# Altium schematic symbol library CAN Transceiver.SchLib: 6 symbols
Pins are listed as number, name and electrical type; pins without a type are passive.

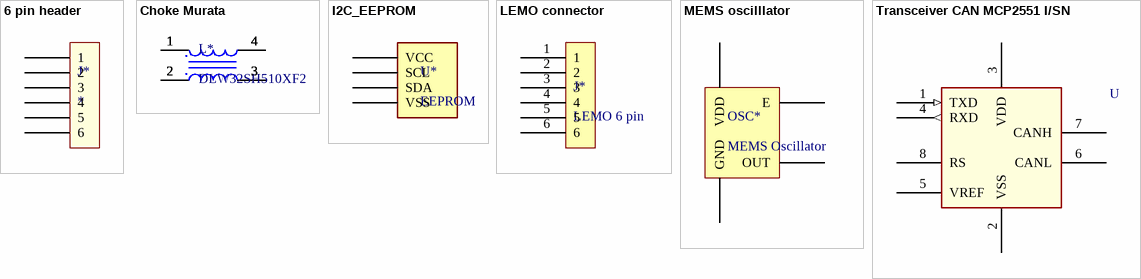
[diagram p0: symbols 6 pin header to Transceiver CAN MCP2551 I/SN]

## 6 pin header
designator J*
pins: 1, 2, 3, 4, 5, 6

## Choke Murata
designator L*, comment DLW32SH510XF2
pins: 1 1_IN, 1 1_IN, 1 1_IN, 1 1_IN, 1 1_IN, 1 1_IN, 1 1_IN, 1 1_IN, 2 2_IN, 2 2_IN, 2 2_IN, 2 2_IN, 2 2_IN, 2 2_IN, 2 2_IN, 2 2_IN, 3 3_OUT, 3 3_OUT, 3 3_OUT, 3 3_OUT, 3 3_OUT, 3 3_OUT, 3 3_OUT, 3 3_OUT, 4 4_OUT, 4 4_OUT, 4 4_OUT, 4 4_OUT, 4 4_OUT, 4 4_OUT, 4 4_OUT, 4 4_OUT

## I2C_EEPROM
designator U*, comment EEPROM
pins: 1 VCC, 2 SCL, 3 SDA, 4 VSS (power)

## LEMO connector
designator J*, comment LEMO 6 pin
pins: 1, 2, 3, 4, 5, 6

## MEMS oscilllator
designator OSC*, comment MEMS Oscillator
pins: 1 VDD, 2 E, 3 OUT, 4 GND

## Transceiver CAN MCP2551 I/SN
designator U  (value not drawn)
footprint MCP2551-I/SN
pins: 1 TXD (in), 2 VSS, 3 VDD, 4 RXD (out), 5 VREF, 6 CANL, 7 CANH, 8 RS